# EAGLE library part AT32UC3C2* (library ic-ATMEL)
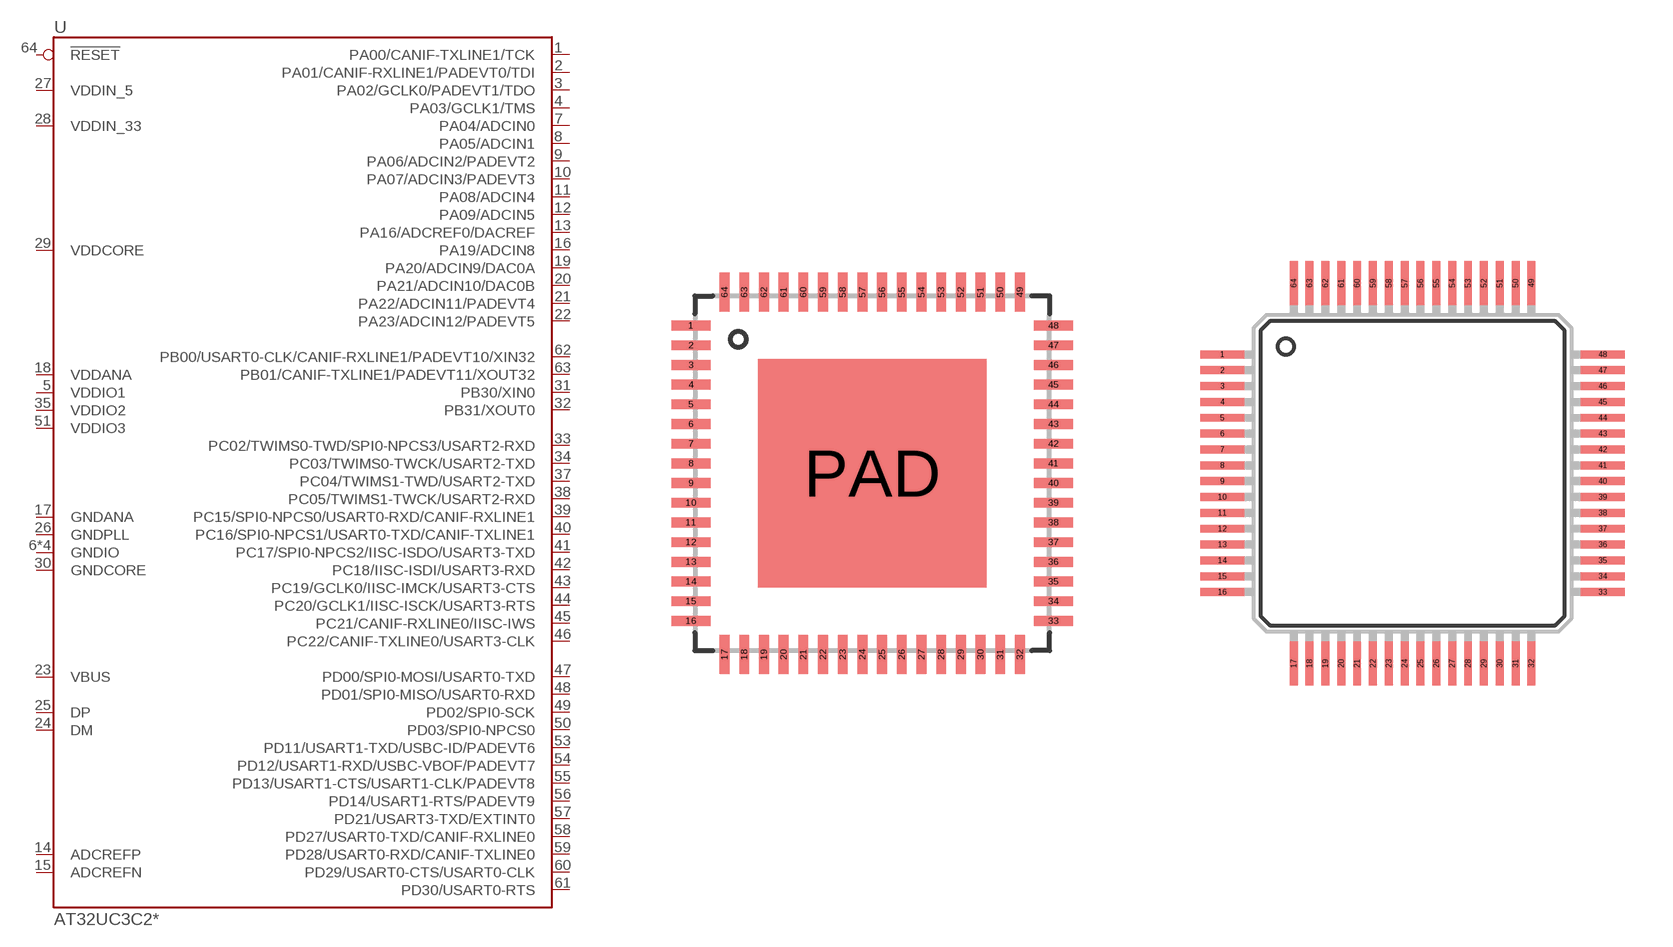
[diagram p12: symbol with the pads of QFN64-0.5; footprints QFN64-0.5, QFP64-0.5]

Designator prefix U

## AT32UC3C2128-Z2U, AT32UC3C2256-Z2U, AT32UC3C2512-Z2U, AT32UC3C264-Z2U  [QFN64-0.5]
1  PA00/CANIF-TXLINE1/TCK
2  PA01/CANIF-RXLINE1/PADEVT0/TDI
3  PA02/GCLK0/PADEVT1/TDO
4  PA03/GCLK1/TMS
5  VDDIO1
6  GNDIO
7  PA04/ADCIN0
8  PA05/ADCIN1
9  PA06/ADCIN2/PADEVT2
10  PA07/ADCIN3/PADEVT3
11  PA08/ADCIN4
12  PA09/ADCIN5
13  PA16/ADCREF0/DACREF
14  ADCREFP
15  ADCREFN
16  PA19/ADCIN8
17  GNDANA
18  VDDANA
19  PA20/ADCIN9/DAC0A
20  PA21/ADCIN10/DAC0B
21  PA22/ADCIN11/PADEVT4
22  PA23/ADCIN12/PADEVT5
23  VBUS
24  DM
25  DP
26  GNDPLL
27  VDDIN_5
28  VDDIN_33
29  VDDCORE
30  GNDCORE
31  PB30/XIN0
32  PB31/XOUT0
33  PC02/TWIMS0-TWD/SPI0-NPCS3/USART2-RXD
34  PC03/TWIMS0-TWCK/USART2-TXD
35  VDDIO2
36  GNDIO
37  PC04/TWIMS1-TWD/USART2-TXD
38  PC05/TWIMS1-TWCK/USART2-RXD
39  PC15/SPI0-NPCS0/USART0-RXD/CANIF-RXLINE1
40  PC16/SPI0-NPCS1/USART0-TXD/CANIF-TXLINE1
41  PC17/SPI0-NPCS2/IISC-ISDO/USART3-TXD
42  PC18/IISC-ISDI/USART3-RXD
43  PC19/GCLK0/IISC-IMCK/USART3-CTS
44  PC20/GCLK1/IISC-ISCK/USART3-RTS
45  PC21/CANIF-RXLINE0/IISC-IWS
46  PC22/CANIF-TXLINE0/USART3-CLK
47  PD00/SPI0-MOSI/USART0-TXD
48  PD01/SPI0-MISO/USART0-RXD
49  PD02/SPI0-SCK
50  PD03/SPI0-NPCS0
51  VDDIO3
52  GNDIO
53  PD11/USART1-TXD/USBC-ID/PADEVT6
54  PD12/USART1-RXD/USBC-VBOF/PADEVT7
55  PD13/USART1-CTS/USART1-CLK/PADEVT8
56  PD14/USART1-RTS/PADEVT9
57  PD21/USART3-TXD/EXTINT0
58  PD27/USART0-TXD/CANIF-RXLINE0
59  PD28/USART0-RXD/CANIF-TXLINE0
60  PD29/USART0-CTS/USART0-CLK
61  PD30/USART0-RTS
62  PB00/USART0-CLK/CANIF-RXLINE1/PADEVT10/XIN32
63  PB01/CANIF-TXLINE1/PADEVT11/XOUT32
64  !RESET
PAD  GNDIO

## AT32UC3C2128-A2U, AT32UC3C2256-A2U, AT32UC3C2512-A2U, AT32UC3C264-A2U  [QFP64-0.5]
1  PA00/CANIF-TXLINE1/TCK
2  PA01/CANIF-RXLINE1/PADEVT0/TDI
3  PA02/GCLK0/PADEVT1/TDO
4  PA03/GCLK1/TMS
5  VDDIO1
6  GNDIO
7  PA04/ADCIN0
8  PA05/ADCIN1
9  PA06/ADCIN2/PADEVT2
10  PA07/ADCIN3/PADEVT3
11  PA08/ADCIN4
12  PA09/ADCIN5
13  PA16/ADCREF0/DACREF
14  ADCREFP
15  ADCREFN
16  PA19/ADCIN8
17  GNDANA
18  VDDANA
19  PA20/ADCIN9/DAC0A
20  PA21/ADCIN10/DAC0B
21  PA22/ADCIN11/PADEVT4
22  PA23/ADCIN12/PADEVT5
23  VBUS
24  DM
25  DP
26  GNDPLL
27  VDDIN_5
28  VDDIN_33
29  VDDCORE
30  GNDCORE
31  PB30/XIN0
32  PB31/XOUT0
33  PC02/TWIMS0-TWD/SPI0-NPCS3/USART2-RXD
34  PC03/TWIMS0-TWCK/USART2-TXD
35  VDDIO2
36  GNDIO
37  PC04/TWIMS1-TWD/USART2-TXD
38  PC05/TWIMS1-TWCK/USART2-RXD
39  PC15/SPI0-NPCS0/USART0-RXD/CANIF-RXLINE1
40  PC16/SPI0-NPCS1/USART0-TXD/CANIF-TXLINE1
41  PC17/SPI0-NPCS2/IISC-ISDO/USART3-TXD
42  PC18/IISC-ISDI/USART3-RXD
43  PC19/GCLK0/IISC-IMCK/USART3-CTS
44  PC20/GCLK1/IISC-ISCK/USART3-RTS
45  PC21/CANIF-RXLINE0/IISC-IWS
46  PC22/CANIF-TXLINE0/USART3-CLK
47  PD00/SPI0-MOSI/USART0-TXD
48  PD01/SPI0-MISO/USART0-RXD
49  PD02/SPI0-SCK
50  PD03/SPI0-NPCS0
51  VDDIO3
52  GNDIO
53  PD11/USART1-TXD/USBC-ID/PADEVT6
54  PD12/USART1-RXD/USBC-VBOF/PADEVT7
55  PD13/USART1-CTS/USART1-CLK/PADEVT8
56  PD14/USART1-RTS/PADEVT9
57  PD21/USART3-TXD/EXTINT0
58  PD27/USART0-TXD/CANIF-RXLINE0
59  PD28/USART0-RXD/CANIF-TXLINE0
60  PD29/USART0-CTS/USART0-CLK
61  PD30/USART0-RTS
62  PB00/USART0-CLK/CANIF-RXLINE1/PADEVT10/XIN32
63  PB01/CANIF-TXLINE1/PADEVT11/XOUT32
64  !RESET

## Footprint QFN64-0.5 (pad centres in mm)
smd 1 x 0.25: 1 -4.6,3.75; 2 -4.6,3.25; 3 -4.6,2.75; 4 -4.6,2.25; 5 -4.6,1.75; 6 -4.6,1.25; 7 -4.6,0.75; 8 -4.6,0.25; 9 -4.6,-0.25; 10 -4.6,-0.75; 11 -4.6,-1.25; 12 -4.6,-1.75; 13 -4.6,-2.25; 14 -4.6,-2.75; 15 -4.6,-3.25; 16 -4.6,-3.75; 33 4.6,-3.75; 34 4.6,-3.25; 35 4.6,-2.75; 36 4.6,-2.25; 37 4.6,-1.75; 38 4.6,-1.25; 39 4.6,-0.75; 40 4.6,-0.25; 41 4.6,0.25; 42 4.6,0.75; 43 4.6,1.25; 44 4.6,1.75; 45 4.6,2.25; 46 4.6,2.75; 47 4.6,3.25; 48 4.6,3.75
smd 0.25 x 1: 17 -3.75,-4.6; 18 -3.25,-4.6; 19 -2.75,-4.6; 20 -2.25,-4.6; 21 -1.75,-4.6; 22 -1.25,-4.6; 23 -0.75,-4.6; 24 -0.25,-4.6; 25 0.25,-4.6; 26 0.75,-4.6; 27 1.25,-4.6; 28 1.75,-4.6; 29 2.25,-4.6; 30 2.75,-4.6; 31 3.25,-4.6; 32 3.75,-4.6; 49 3.75,4.6; 50 3.25,4.6; 51 2.75,4.6; 52 2.25,4.6; 53 1.75,4.6; 54 1.25,4.6; 55 0.75,4.6; 56 0.25,4.6; 57 -0.25,4.6; 58 -0.75,4.6; 59 -1.25,4.6; 60 -1.75,4.6; 61 -2.25,4.6; 62 -2.75,4.6; 63 -3.25,4.6; 64 -3.75,4.6
smd 5.8 x 5.8: PAD 0,0

## Footprint QFP64-0.5 (pad centres in mm)
smd 1.4 x 0.25: 1 -6,3.75; 2 -6,3.25; 3 -6,2.75; 4 -6,2.25; 5 -6,1.75; 6 -6,1.25; 7 -6,0.75; 8 -6,0.25; 9 -6,-0.25; 10 -6,-0.75; 11 -6,-1.25; 12 -6,-1.75; 13 -6,-2.25; 14 -6,-2.75; 15 -6,-3.25; 16 -6,-3.75; 33 6,-3.75; 34 6,-3.25; 35 6,-2.75; 36 6,-2.25; 37 6,-1.75; 38 6,-1.25; 39 6,-0.75; 40 6,-0.25; 41 6,0.25; 42 6,0.75; 43 6,1.25; 44 6,1.75; 45 6,2.25; 46 6,2.75; 47 6,3.25; 48 6,3.75
smd 0.25 x 1.4: 17 -3.75,-6; 18 -3.25,-6; 19 -2.75,-6; 20 -2.25,-6; 21 -1.75,-6; 22 -1.25,-6; 23 -0.75,-6; 24 -0.25,-6; 25 0.25,-6; 26 0.75,-6; 27 1.25,-6; 28 1.75,-6; 29 2.25,-6; 30 2.75,-6; 31 3.25,-6; 32 3.75,-6; 49 3.75,6; 50 3.25,6; 51 2.75,6; 52 2.25,6; 53 1.75,6; 54 1.25,6; 55 0.75,6; 56 0.25,6; 57 -0.25,6; 58 -0.75,6; 59 -1.25,6; 60 -1.75,6; 61 -2.25,6; 62 -2.75,6; 63 -3.25,6; 64 -3.75,6